# EAGLE library part MMA8653 (library logic-supply)
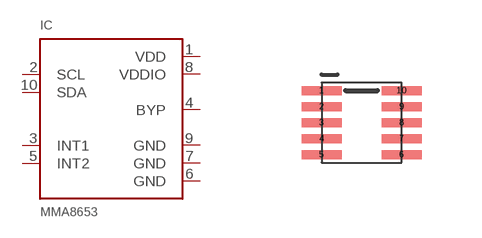
[diagram p34: symbol with the pads of DFN10-2X2; footprint DFN10-2X2]

Designator prefix IC

## MMA8653FC  [DFN10-2X2]
1  VDD
2  SCL
3  INT1
4  BYP
5  INT2
6  GND
7  GND
8  VDDIO
9  GND
10  SDA

## Footprint DFN10-2X2 (pad centres in mm)
smd 1 x 0.225: 1 -1,0.8; 2 -1,0.4; 3 -1,0; 4 -1,-0.4; 5 -1,-0.8; 6 1,-0.8; 7 1,-0.4; 8 1,0; 9 1,0.4; 10 1,0.8